# Altium schematic symbol library WCH-CH335F.SchLib: 1 symbol
Pins are listed as number, name and electrical type; pins without a type are passive.

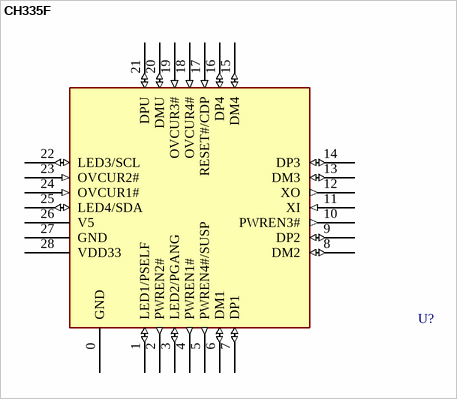
[diagram p0: symbol CH335F]

## CH335F
designator U?
footprint QFN28_4X4
pins: 0 GND (power), 1 LED1/PSELF (io), 2 PWREN2# (out), 3 LED2/PGANG (io), 4 PWREN1# (out), 5 PWREN4#/SUSP (out), 6 DM1 (io), 7 DP1 (io), 8 DM2 (io), 9 DP2 (io), 10 PWREN3# (out), 11 XI (in), 12 XO (out), 13 DM3 (io), 14 DP3 (io), 15 DM4 (io), 16 DP4 (io), 17 RESET#/CDP (in), 18 OVCUR4# (in), 19 OVCUR3# (in), 20 DMU (io), 21 DPU (io), 22 LED3/SCL (io), 23 OVCUR2# (in), 24 OVCUR1# (in), 25 LED4/SDA (io), 26 V5 (power), 27 GND (power), 28 VDD33 (power)